# EAGLE library part FT232RQ (library testing_jig)
USB-to-UART 1-CH 256Byte FIFO 5V 32-Pin QFN EP
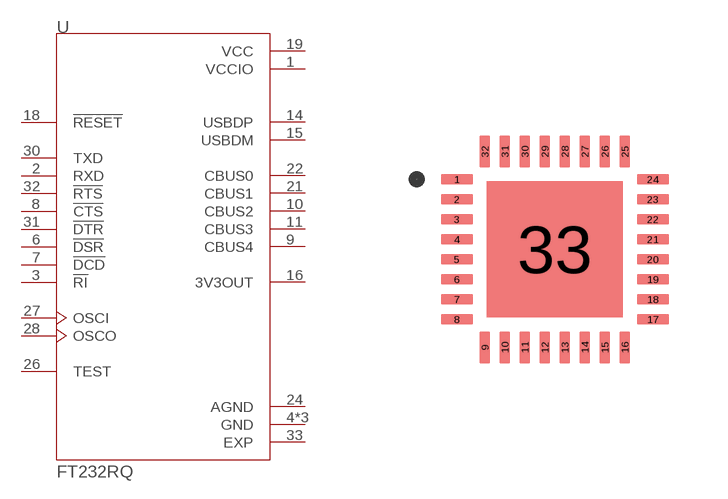
[diagram p3: symbol with the pads of QFN50P500X500X90-33N; footprint QFN50P500X500X90-33N]

Designator prefix U

## FT232RQ (A_MAX: 0.9; B_MAX: 0.3; B_MIN: 0.2; B_NOM: 0.25; D2_NOM: 3.4; D_MAX: 5.0; D_MIN: 5.0; D_NOM: 5.0; E2_NOM: 3.4; ENOM: 0.5; E_MAX: 5.0; E_MIN: 5.0; E_NOM: 5.0; L_MAX: 0.45; L_MIN: 0.35; L_NOM: 0.4; MANUFACTURER: FTDI; MAXIMUM_PACKAGE_HEIGHT: 0.9mm; PARTREV: 2.15; PIN_COUNT_D: 8.0; PIN_COUNT_E: 8.0; SNAPEDA_PACKAGE_ID: 71296; STANDARD: IPC 7351B)  [QFN50P500X500X90-33N]
1  VCCIO  pwr
2  RXD  in
3  !RI  in
4  GND  pwr
6  !DSR  in
7  !DCD  in
8  !CTS  in
9  CBUS4
10  CBUS2
11  CBUS3
14  USBDP
15  USBDM
16  3V3OUT  out
17  GND  pwr
18  !RESET  in
19  VCC  pwr
20  GND  pwr
21  CBUS1
22  CBUS0
24  AGND  pwr
26  TEST  in
27  OSCI  in
28  OSCO  out
30  TXD  out
31  !DTR  out
32  !RTS  out
33  EXP  pwr

## Footprint QFN50P500X500X90-33N (pad centres in mm)
smd 0.81 x 0.27: 1 -2.45,1.75; 2 -2.45,1.25; 3 -2.45,0.75; 4 -2.45,0.25; 5 -2.45,-0.25; 6 -2.45,-0.75; 7 -2.45,-1.25; 8 -2.45,-1.75; 17 2.45,-1.75; 18 2.45,-1.25; 19 2.45,-0.75; 20 2.45,-0.25; 21 2.45,0.25; 22 2.45,0.75; 23 2.45,1.25; 24 2.45,1.75
smd 0.27 x 0.81: 9 -1.75,-2.45; 10 -1.25,-2.45; 11 -0.75,-2.45; 12 -0.25,-2.45; 13 0.25,-2.45; 14 0.75,-2.45; 15 1.25,-2.45; 16 1.75,-2.45; 25 1.75,2.45; 26 1.25,2.45; 27 0.75,2.45; 28 0.25,2.45; 29 -0.25,2.45; 30 -0.75,2.45; 31 -1.25,2.45; 32 -1.75,2.45
smd 3.4 x 3.4: 33 0,0